# EAGLE library part USB-C (library Header and Connector)
USB Type-C Connector (Without Highspeed Pins).
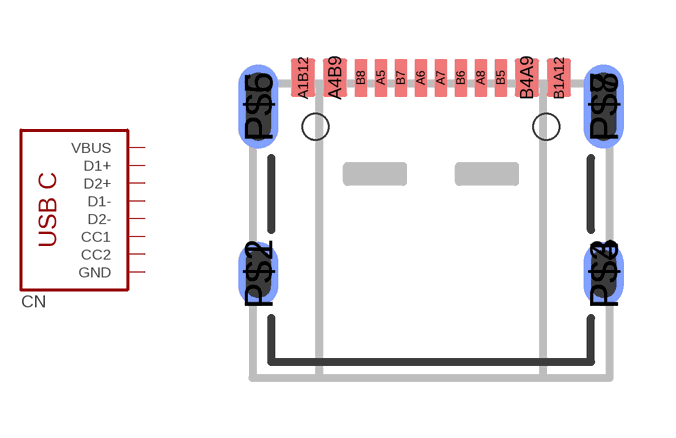
[diagram p47: symbol with the pads of USB-C; footprint USB-C]

Designator prefix CN

## USB-C  [USB-C]
A1B12  GND
A4B9  VBUS
A5  CC1
A6  D1+
A7  D1-
B1A12  GND
B4A9  VBUS
B5  CC2
B6  D2+
B7  D2-

## Footprint USB-C (pad centres in mm)
Single Row USB Type C Connector.
smd 0.6 x 0.95: A1B12 -3.2,4.9; A4B9 -2.4,4.9; B1A12 3.2,4.9; B4A9 2.4,4.9
smd 0.3 x 0.95: A5 -1.25,4.9; A6 -0.25,4.9; A7 0.25,4.9; A8 1.25,4.9; B5 1.75,4.9; B6 0.75,4.9; B7 -0.75,4.9; B8 -1.75,4.9
smd 1 x 1.6: P$1 -4.32,0; P$3 4.32,0
smd 1 x 1.6 bottom: P$2 -4.32,0; P$4 4.32,0
smd 1 x 2.1: P$5 -4.32,4.18; P$7 4.32,4.18
smd 1 x 2.1 bottom: P$6 -4.32,4.18; P$8 4.32,4.18
hole 0.65 at -2.89,3.68
hole 0.65 at 2.89,3.68